# Altium integrated library TI Power Management Lighting and Display.IntLib: 745 symbols (part 21 of 48)
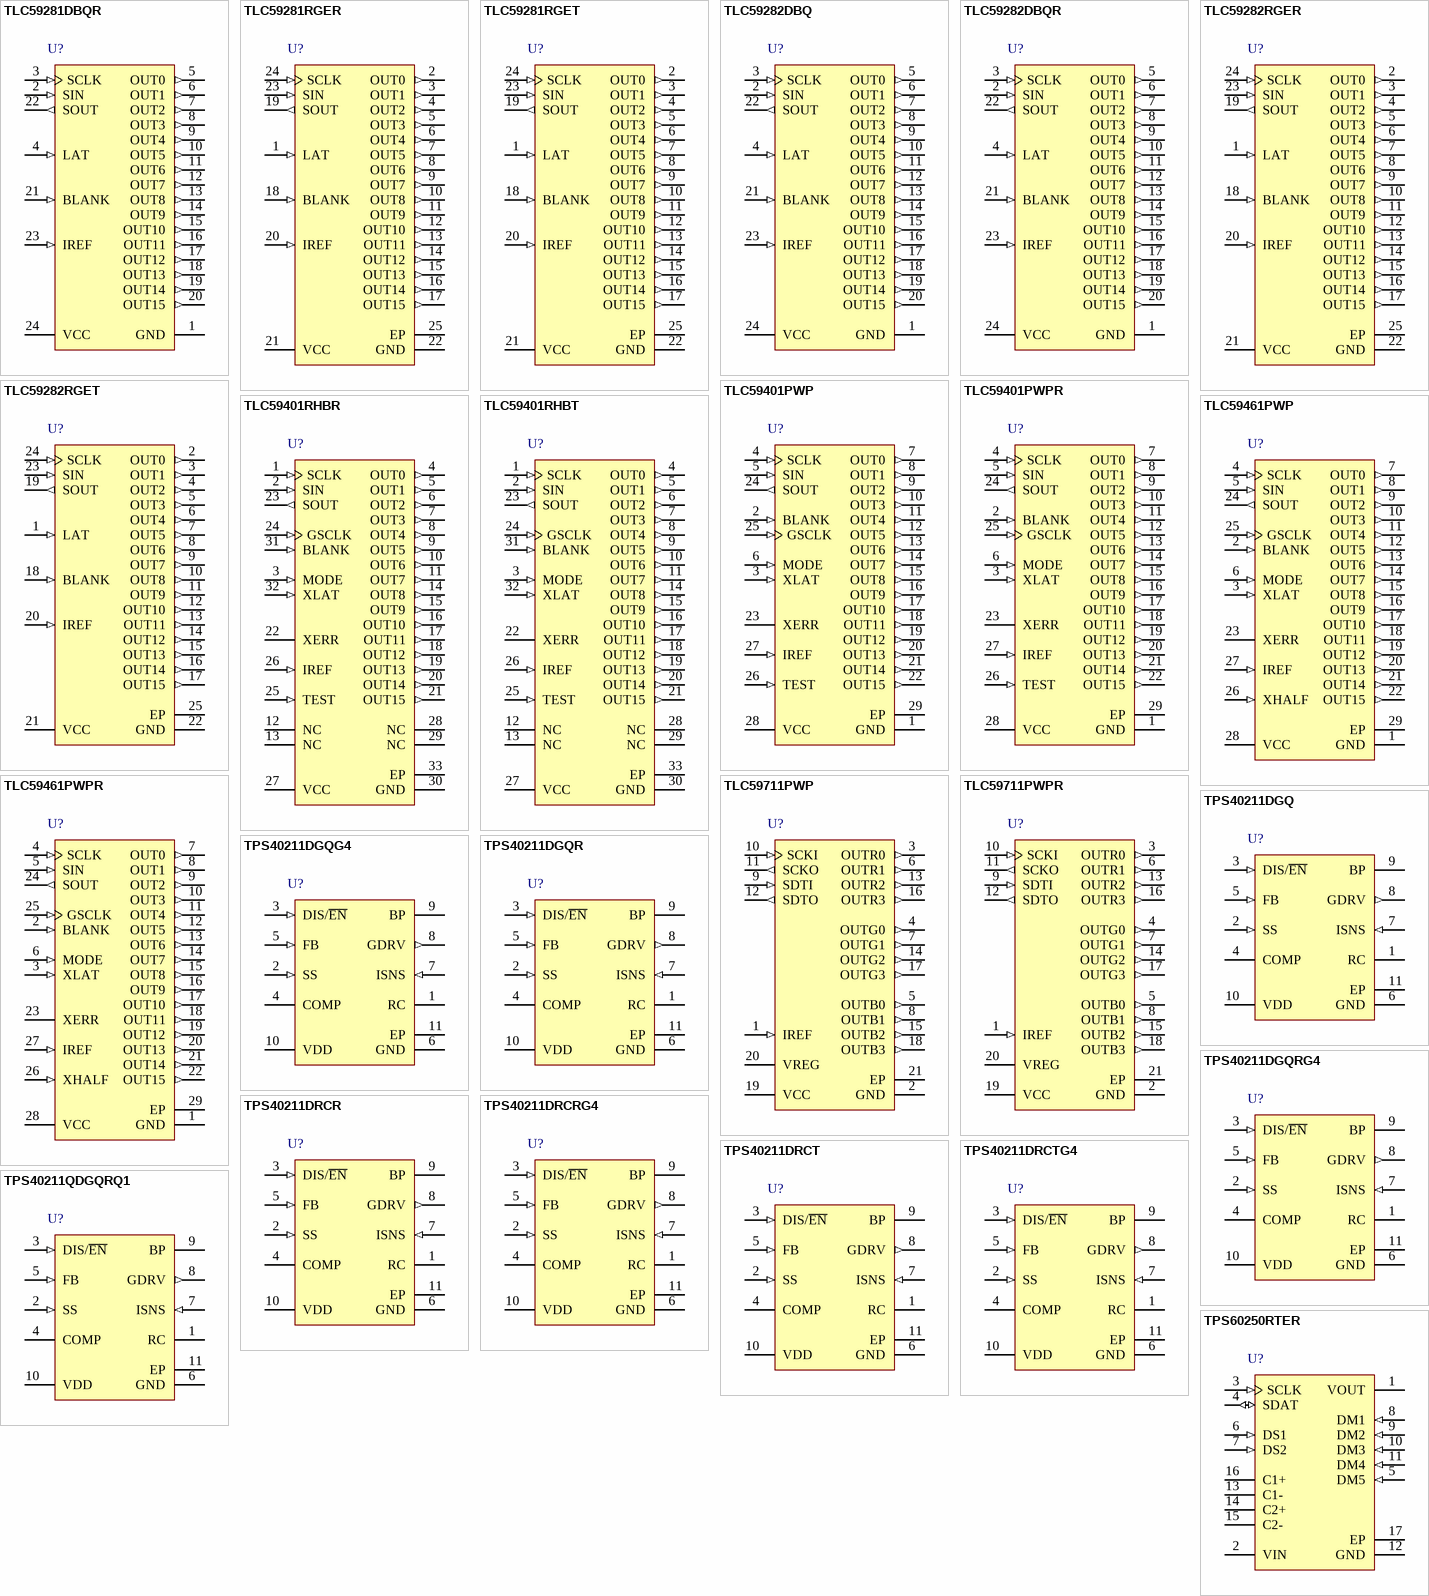
[diagram p51: symbols TLC59281DBQR to TPS60250RTER]

## TPS40211DGQ
designator U?
Wide Input Range Current Mode Boost Controller, 4.5 to 52 V, -40 to 125 degC, 10-pin SOP (DGQ10), Green (RoHS & no Sb/Br); Manufacturer: Texas Instruments; PartNumber: TPS40211DGQ; Iout(Max)(A): 6; Rating: Catalog; SubFamily: LED Driver, Lighting and Display Solutions, White LED Driver; Switching Frequency(Max)(kHz): 1000; Vin(Max)(V): 52; Vin(Min)(V): 4.5; DatasheetVersion: SLUS772E; PackageVersion: 4073273/F; PackageReference: DGQ10-1675X1445TP; PackageDescription: 10-Pin Plastic Small Outline, Body 3 x 3 mm, Pitch 0.5 mm; Supplier 1: Digi-Key; Supplier Part Number 1: 296-23411-5-ND; Supplier 2: Digi-Key; Supplier Part Number 2: 296-23411-2-ND; Supplier 3: Farnell; Supplier Part Number 3: 1755636; Supplier 4: Newark; Supplier Part Number 4: 95M0048; Supplier 5: Mouser; Supplier Part Number 5: 595-TPS40211DGQ; Eco-Plan: Green (RoHS & no Sb/Br); Topology: Boost; Mounting Technology: Surface Mount; Code_JEDEC: MO-187; ComponentLink1Description: Manufacturer URL; ComponentLink1URL: http://www.ti.com/; ComponentLink2Description: Datasheet; ComponentLink2URL: http://www.ti.com/general/docs/lit/getliterature.tsp?genericPartNumber=TPS40211&fileType=pdf; ComponentLink3Description: Package Specification; ComponentLink3URL: http://www.ti.com/litv/pdf/mpds043e
footprint TI-DGQ10-1675X1445TP_N (SOP, 10-Leads, Body 3.0x3.0mm, Pitch 0.5mm, Thermal Pad 1.675X1.445mm, IPC Medium Density)
footprint TI-DGQ10-1675X1445TP_L (SOP, 10-Leads, Body 3.0x3.0mm, Pitch 0.5mm, Thermal Pad 1.675X1.445mm, IPC High Density)
footprint TI-DGQ10-1675X1445TP_M (SOP, 10-Leads, Body 3.0x3.0mm, Pitch 0.5mm, Thermal Pad 1.675X1.445mm, IPC Low Density)
pins: 1 RC "Swiching frequency setting pin . Connect a resistor from RC pin to VDD of the IC power supply and a capacitor from RC to GND.", 2 SS (in) "Soft-start time programming pin . Connect capacitor from SS pin to GND to program converter soft-start time This pin also functions as time out timer when the power supply is in an overcurrent condition.", 3 DIS/~{EN} (in) "Disable pin. Pulling this pin high, places the part into a shutdown mode. Shutdown mode is characterized by a very low quiescent current. While in shut down mode , the functionality of all blocks is disabled and thr BP (See Datasheet)", 4 COMP "Error amplifier output. Connect control loop compensation network between COMP pin and FB pin.", 5 FB (in) "Error amplifier inverting input . Connect 3 voltage divider from the output to this pin to set voltage . Compensation network is connect between this pin and COMP .", 6 GND (power) "Device ground.", 7 ISNS (in) "Current sense pin. Connect an external current sensing resistor between this pin and GND. The voltage on this pin is used to provide current feedback in the control loop and overcurrent condition . An overcurrent condition (See Datasheet)", 8 GDRV (out) "Connect the gate of the power N channel MOSFET to this pin.", 9 BP (power) "Regulator output pin. Connect a 1.0-uF bypass capacitor from this pin to GND.", 10 VDD (power) "System input voltage. Connect a local bypass capacitor from this pin to GND. Depending on the amount of VDD 10 I required slope compensation, this pin can be connected to the converter output.", 11 EP "Exposed thermal pad"

## TPS40211DGQG4
designator U?
Wide Input Range Current Mode Boost Controller, 4.5 to 52 V, -40 to 125 degC, 10-pin SOP (DGQ10), Green (RoHS & no Sb/Br); Manufacturer: Texas Instruments; PartNumber: TPS40211DGQG4; Iout(Max)(A): 6; Rating: Catalog; SubFamily: LED Driver, Lighting and Display Solutions, White LED Driver; Switching Frequency(Max)(kHz): 1000; Vin(Max)(V): 52; Vin(Min)(V): 4.5; DatasheetVersion: SLUS772E; PackageVersion: 4073273/F; PackageReference: DGQ10-1675X1445TP; PackageDescription: 10-Pin Plastic Small Outline, Body 3 x 3 mm, Pitch 0.5 mm; Supplier 1: Digi-Key; Supplier Part Number 1: TPS40211DGQG4-ND; Supplier 2: Mouser; Supplier Part Number 2: 595-TPS40211DGQG4; Eco-Plan: Green (RoHS & no Sb/Br); Topology: Boost; Mounting Technology: Surface Mount; Code_JEDEC: MO-187; ComponentLink1Description: Manufacturer URL; ComponentLink1URL: http://www.ti.com/; ComponentLink2Description: Datasheet; ComponentLink2URL: http://www.ti.com/general/docs/lit/getliterature.tsp?genericPartNumber=TPS40211&fileType=pdf; ComponentLink3Description: Package Specification; ComponentLink3URL: http://www.ti.com/litv/pdf/mpds043e
footprint TI-DGQ10-1675X1445TP_N (SOP, 10-Leads, Body 3.0x3.0mm, Pitch 0.5mm, Thermal Pad 1.675X1.445mm, IPC Medium Density)
footprint TI-DGQ10-1675X1445TP_L (SOP, 10-Leads, Body 3.0x3.0mm, Pitch 0.5mm, Thermal Pad 1.675X1.445mm, IPC High Density)
footprint TI-DGQ10-1675X1445TP_M (SOP, 10-Leads, Body 3.0x3.0mm, Pitch 0.5mm, Thermal Pad 1.675X1.445mm, IPC Low Density)
pins: 1 RC "Swiching frequency setting pin . Connect a resistor from RC pin to VDD of the IC power supply and a capacitor from RC to GND.", 2 SS (in) "Soft-start time programming pin . Connect capacitor from SS pin to GND to program converter soft-start time This pin also functions as time out timer when the power supply is in an overcurrent condition.", 3 DIS/~{EN} (in) "Disable pin. Pulling this pin high, places the part into a shutdown mode. Shutdown mode is characterized by a very low quiescent current. While in shut down mode , the functionality of all blocks is disabled and thr BP (See Datasheet)", 4 COMP "Error amplifier output. Connect control loop compensation network between COMP pin and FB pin.", 5 FB (in) "Error amplifier inverting input . Connect 3 voltage divider from the output to this pin to set voltage . Compensation network is connect between this pin and COMP .", 6 GND (power) "Device ground.", 7 ISNS (in) "Current sense pin. Connect an external current sensing resistor between this pin and GND. The voltage on this pin is used to provide current feedback in the control loop and overcurrent condition . An overcurrent condition (See Datasheet)", 8 GDRV (out) "Connect the gate of the power N channel MOSFET to this pin.", 9 BP (power) "Regulator output pin. Connect a 1.0-uF bypass capacitor from this pin to GND.", 10 VDD (power) "System input voltage. Connect a local bypass capacitor from this pin to GND. Depending on the amount of VDD 10 I required slope compensation, this pin can be connected to the converter output.", 11 EP "Exposed thermal pad"

## TPS40211DGQR
designator U?
Wide Input Range Current Mode Boost Controller, 4.5 to 52 V, -40 to 125 degC, 10-pin SOP (DGQ10), Green (RoHS & no Sb/Br); Manufacturer: Texas Instruments; PartNumber: TPS40211DGQR; Iout(Max)(A): 6; Rating: Catalog; SubFamily: LED Driver, Lighting and Display Solutions, White LED Driver; Switching Frequency(Max)(kHz): 1000; Vin(Max)(V): 52; Vin(Min)(V): 4.5; DatasheetVersion: SLUS772E; PackageVersion: 4073273/F; PackageReference: DGQ10-1675X1445TP; PackageDescription: 10-Pin Plastic Small Outline, Body 3 x 3 mm, Pitch 0.5 mm; Supplier 1: Digi-Key; Supplier Part Number 1: TPS40211DGQR-ND; Supplier 2: Mouser; Supplier Part Number 2: 595-TPS40211DGQR; Eco-Plan: Green (RoHS & no Sb/Br); Topology: Boost; Mounting Technology: Surface Mount; Code_JEDEC: MO-187; ComponentLink1Description: Manufacturer URL; ComponentLink1URL: http://www.ti.com/; ComponentLink2Description: Datasheet; ComponentLink2URL: http://www.ti.com/general/docs/lit/getliterature.tsp?genericPartNumber=TPS40211&fileType=pdf; ComponentLink3Description: Package Specification; ComponentLink3URL: http://www.ti.com/litv/pdf/mpds043e
footprint TI-DGQ10-1675X1445TP_N (SOP, 10-Leads, Body 3.0x3.0mm, Pitch 0.5mm, Thermal Pad 1.675X1.445mm, IPC Medium Density)
footprint TI-DGQ10-1675X1445TP_L (SOP, 10-Leads, Body 3.0x3.0mm, Pitch 0.5mm, Thermal Pad 1.675X1.445mm, IPC High Density)
footprint TI-DGQ10-1675X1445TP_M (SOP, 10-Leads, Body 3.0x3.0mm, Pitch 0.5mm, Thermal Pad 1.675X1.445mm, IPC Low Density)
pins: 1 RC "Swiching frequency setting pin . Connect a resistor from RC pin to VDD of the IC power supply and a capacitor from RC to GND.", 2 SS (in) "Soft-start time programming pin . Connect capacitor from SS pin to GND to program converter soft-start time This pin also functions as time out timer when the power supply is in an overcurrent condition.", 3 DIS/~{EN} (in) "Disable pin. Pulling this pin high, places the part into a shutdown mode. Shutdown mode is characterized by a very low quiescent current. While in shut down mode , the functionality of all blocks is disabled and thr BP (See Datasheet)", 4 COMP "Error amplifier output. Connect control loop compensation network between COMP pin and FB pin.", 5 FB (in) "Error amplifier inverting input . Connect 3 voltage divider from the output to this pin to set voltage . Compensation network is connect between this pin and COMP .", 6 GND (power) "Device ground.", 7 ISNS (in) "Current sense pin. Connect an external current sensing resistor between this pin and GND. The voltage on this pin is used to provide current feedback in the control loop and overcurrent condition . An overcurrent condition (See Datasheet)", 8 GDRV (out) "Connect the gate of the power N channel MOSFET to this pin.", 9 BP (power) "Regulator output pin. Connect a 1.0-uF bypass capacitor from this pin to GND.", 10 VDD (power) "System input voltage. Connect a local bypass capacitor from this pin to GND. Depending on the amount of VDD 10 I required slope compensation, this pin can be connected to the converter output.", 11 EP "Exposed thermal pad"

## TPS40211DGQRG4
designator U?
Wide Input Range Current Mode Boost Controller, 4.5 to 52 V, -40 to 125 degC, 10-pin SOP (DGQ10), Green (RoHS & no Sb/Br); Manufacturer: Texas Instruments; PartNumber: TPS40211DGQRG4; Iout(Max)(A): 6; Rating: Catalog; SubFamily: LED Driver, Lighting and Display Solutions, White LED Driver; Switching Frequency(Max)(kHz): 1000; Vin(Max)(V): 52; Vin(Min)(V): 4.5; DatasheetVersion: SLUS772E; PackageVersion: 4073273/F; PackageReference: DGQ10-1675X1445TP; PackageDescription: 10-Pin Plastic Small Outline, Body 3 x 3 mm, Pitch 0.5 mm; Supplier 1: Digi-Key; Supplier Part Number 1: TPS40211DGQRG4-ND; Supplier 2: Mouser; Supplier Part Number 2: 595-TPS40211DGQRG4; Eco-Plan: Green (RoHS & no Sb/Br); Topology: Boost; Mounting Technology: Surface Mount; Code_JEDEC: MO-187; ComponentLink1Description: Manufacturer URL; ComponentLink1URL: http://www.ti.com/; ComponentLink2Description: Datasheet; ComponentLink2URL: http://www.ti.com/general/docs/lit/getliterature.tsp?genericPartNumber=TPS40211&fileType=pdf; ComponentLink3Description: Package Specification; ComponentLink3URL: http://www.ti.com/litv/pdf/mpds043e
footprint TI-DGQ10-1675X1445TP_N (SOP, 10-Leads, Body 3.0x3.0mm, Pitch 0.5mm, Thermal Pad 1.675X1.445mm, IPC Medium Density)
footprint TI-DGQ10-1675X1445TP_L (SOP, 10-Leads, Body 3.0x3.0mm, Pitch 0.5mm, Thermal Pad 1.675X1.445mm, IPC High Density)
footprint TI-DGQ10-1675X1445TP_M (SOP, 10-Leads, Body 3.0x3.0mm, Pitch 0.5mm, Thermal Pad 1.675X1.445mm, IPC Low Density)
pins: 1 RC "Swiching frequency setting pin . Connect a resistor from RC pin to VDD of the IC power supply and a capacitor from RC to GND.", 2 SS (in) "Soft-start time programming pin . Connect capacitor from SS pin to GND to program converter soft-start time This pin also functions as time out timer when the power supply is in an overcurrent condition.", 3 DIS/~{EN} (in) "Disable pin. Pulling this pin high, places the part into a shutdown mode. Shutdown mode is characterized by a very low quiescent current. While in shut down mode , the functionality of all blocks is disabled and thr BP (See Datasheet)", 4 COMP "Error amplifier output. Connect control loop compensation network between COMP pin and FB pin.", 5 FB (in) "Error amplifier inverting input . Connect 3 voltage divider from the output to this pin to set voltage . Compensation network is connect between this pin and COMP .", 6 GND (power) "Device ground.", 7 ISNS (in) "Current sense pin. Connect an external current sensing resistor between this pin and GND. The voltage on this pin is used to provide current feedback in the control loop and overcurrent condition . An overcurrent condition (See Datasheet)", 8 GDRV (out) "Connect the gate of the power N channel MOSFET to this pin.", 9 BP (power) "Regulator output pin. Connect a 1.0-uF bypass capacitor from this pin to GND.", 10 VDD (power) "System input voltage. Connect a local bypass capacitor from this pin to GND. Depending on the amount of VDD 10 I required slope compensation, this pin can be connected to the converter output.", 11 EP "Exposed thermal pad"

## TPS40211DRCR
designator U?
Wide Input Range Current Mode Boost Controller, 4.5 to 52 V, -40 to 125 degC, 10-pin SON (DRC10), Green (RoHS & no Sb/Br); Manufacturer: Texas Instruments; PartNumber: TPS40211DRCR; Iout(Max)(A): 6; Rating: Catalog; SubFamily: LED Driver, Lighting and Display Solutions, White LED Driver; Switching Frequency(Max)(kHz): 1000; Vin(Max)(V): 52; Vin(Min)(V): 4.5; DatasheetVersion: SLUS772E; PackageVersion: 4204102-3/L; PackageReference: DRC10-2400X1650TP; PackageDescription: 10-Pin Plastic Small Outline, Body 3 x 3 mm, Pitch 0.5 mm; Supplier 1: Digi-Key; Supplier Part Number 1: TPS40211DRCR-ND; Supplier 2: Mouser; Supplier Part Number 2: 595-TPS40211DRCR; Eco-Plan: Green (RoHS & no Sb/Br); Topology: Boost; Mounting Technology: Surface Mount; ComponentLink1Description: Manufacturer URL; ComponentLink1URL: http://www.ti.com/; ComponentLink2Description: Datasheet; ComponentLink2URL: http://www.ti.com/general/docs/lit/getliterature.tsp?genericPartNumber=TPS40211&fileType=pdf; ComponentLink3Description: Package Specification; ComponentLink3URL: http://www.ti.com/litv/pdf/mpds117k
footprint TI-DRC10-2400X1650TP_V (SON, 10-Leads, Body 3x3mm, Pitch 0.5mm, Thermal Pad 3x1.65mm)
pins: 1 RC "Switching frequency setting pin. Connect a resistor from RC pin to VDD of the IC power supply and a capacitor from RC to GND.", 2 SS (in) "Soft-start time programming pin. Connect capacitor from SS pin to GND to program converter soft-start time. This pin also functions as a timeout timer when the power supply is in an overcurrent condition.", 3 DIS/~{EN} (in) "Disable pin. Pulling this pin high, places the part into a shutdown mode. Shutdown mode is characterized by a very low quiescent current. While in shutdown mode, the functionality of all blocks is disabled and the BP (See Datasheet)", 4 COMP "Error amplifier output. Connect control loop compensation network between COMP pin and FB pin.", 5 FB (in) "Error amplifier inverting input. Connect a voltage divider from the output to this pin to set output voltage. Compensation network is connected between this pin and COMP.", 6 GND (power) "Device ground.", 7 ISNS (in) "Current sense pin. Connect an external current sensing resistor between this pin and GND. The voltage on this pin is used to provide current feedback in the control loop and detect an overcurrent condition. An overcurrent (See Datasheet)", 8 GDRV (out) "Connect the gate of the power N channel MOSFET to this pin.", 9 BP (power) "Regulator output pin. Connect a 1.0-uF bypass capacitor from this pin to GND.", 10 VDD (power) "System input voltage. Connect a local bypass capacitor from this pin to GND. Depending on the amount of required slope compensation, this pin can be connected to the converter output. See Application Information section for (See Datasheet)", 11 EP "Exposed thermal pad"

## TPS40211DRCRG4
designator U?
Wide Input Range Current Mode Boost Controller, 4.5 to 52 V, -40 to 125 degC, 10-pin SON (DRC10), Green (RoHS & no Sb/Br); Manufacturer: Texas Instruments; PartNumber: TPS40211DRCRG4; Iout(Max)(A): 6; Rating: Catalog; SubFamily: LED Driver, Lighting and Display Solutions, White LED Driver; Switching Frequency(Max)(kHz): 1000; Vin(Max)(V): 52; Vin(Min)(V): 4.5; DatasheetVersion: SLUS772E; PackageVersion: 4204102-3/L; PackageReference: DRC10-2400X1650TP; PackageDescription: 10-Pin Plastic Small Outline, Body 3 x 3 mm, Pitch 0.5 mm; Supplier 1: Digi-Key; Supplier Part Number 1: TPS40211DRCRG4-ND; Supplier 2: Mouser; Supplier Part Number 2: 595-TPS40211DRCRG4; Eco-Plan: Green (RoHS & no Sb/Br); Topology: Boost; Mounting Technology: Surface Mount; ComponentLink1Description: Manufacturer URL; ComponentLink1URL: http://www.ti.com/; ComponentLink2Description: Datasheet; ComponentLink2URL: http://www.ti.com/general/docs/lit/getliterature.tsp?genericPartNumber=TPS40211&fileType=pdf; ComponentLink3Description: Package Specification; ComponentLink3URL: http://www.ti.com/litv/pdf/mpds117k
footprint TI-DRC10-2400X1650TP_V (SON, 10-Leads, Body 3x3mm, Pitch 0.5mm, Thermal Pad 3x1.65mm)
pins: 1 RC "Switching frequency setting pin. Connect a resistor from RC pin to VDD of the IC power supply and a capacitor from RC to GND.", 2 SS (in) "Soft-start time programming pin. Connect capacitor from SS pin to GND to program converter soft-start time. This pin also functions as a timeout timer when the power supply is in an overcurrent condition.", 3 DIS/~{EN} (in) "Disable pin. Pulling this pin high, places the part into a shutdown mode. Shutdown mode is characterized by a very low quiescent current. While in shutdown mode, the functionality of all blocks is disabled and the BP (See Datasheet)", 4 COMP "Error amplifier output. Connect control loop compensation network between COMP pin and FB pin.", 5 FB (in) "Error amplifier inverting input. Connect a voltage divider from the output to this pin to set output voltage. Compensation network is connected between this pin and COMP.", 6 GND (power) "Device ground.", 7 ISNS (in) "Current sense pin. Connect an external current sensing resistor between this pin and GND. The voltage on this pin is used to provide current feedback in the control loop and detect an overcurrent condition. An overcurrent (See Datasheet)", 8 GDRV (out) "Connect the gate of the power N channel MOSFET to this pin.", 9 BP (power) "Regulator output pin. Connect a 1.0-uF bypass capacitor from this pin to GND.", 10 VDD (power) "System input voltage. Connect a local bypass capacitor from this pin to GND. Depending on the amount of required slope compensation, this pin can be connected to the converter output. See Application Information section for (See Datasheet)", 11 EP "Exposed thermal pad"

## TPS40211DRCT
designator U?
Wide Input Range Current Mode Boost Controller, 4.5 to 52 V, -40 to 125 degC, 10-pin SON (DRC10), Green (RoHS & no Sb/Br); Manufacturer: Texas Instruments; PartNumber: TPS40211DRCT; Iout(Max)(A): 6; Rating: Catalog; SubFamily: LED Driver, Lighting and Display Solutions, White LED Driver; Switching Frequency(Max)(kHz): 1000; Vin(Max)(V): 52; Vin(Min)(V): 4.5; DatasheetVersion: SLUS772E; PackageVersion: 4204102-3/L; PackageReference: DRC10-2400X1650TP; PackageDescription: 10-Pin Plastic Small Outline, Body 3 x 3 mm, Pitch 0.5 mm; Supplier 1: Digi-Key; Supplier Part Number 1: 296-23414-2-ND; Supplier 2: Digi-Key; Supplier Part Number 2: 296-23414-1-ND; Supplier 3: Digi-Key; Supplier Part Number 3: 296-23414-6-ND; Supplier 4: Mouser; Supplier Part Number 4: 595-TPS40211DRCT; Eco-Plan: Green (RoHS & no Sb/Br); Topology: Boost; Mounting Technology: Surface Mount; ComponentLink1Description: Manufacturer URL; ComponentLink1URL: http://www.ti.com/; ComponentLink2Description: Datasheet; ComponentLink2URL: http://www.ti.com/general/docs/lit/getliterature.tsp?genericPartNumber=TPS40211&fileType=pdf; ComponentLink3Description: Package Specification; ComponentLink3URL: http://www.ti.com/litv/pdf/mpds117k
footprint TI-DRC10-2400X1650TP_V (SON, 10-Leads, Body 3x3mm, Pitch 0.5mm, Thermal Pad 3x1.65mm)
pins: 1 RC "Switching frequency setting pin. Connect a resistor from RC pin to VDD of the IC power supply and a capacitor from RC to GND.", 2 SS (in) "Soft-start time programming pin. Connect capacitor from SS pin to GND to program converter soft-start time. This pin also functions as a timeout timer when the power supply is in an overcurrent condition.", 3 DIS/~{EN} (in) "Disable pin. Pulling this pin high, places the part into a shutdown mode. Shutdown mode is characterized by a very low quiescent current. While in shutdown mode, the functionality of all blocks is disabled and the BP (See Datasheet)", 4 COMP "Error amplifier output. Connect control loop compensation network between COMP pin and FB pin.", 5 FB (in) "Error amplifier inverting input. Connect a voltage divider from the output to this pin to set output voltage. Compensation network is connected between this pin and COMP.", 6 GND (power) "Device ground.", 7 ISNS (in) "Current sense pin. Connect an external current sensing resistor between this pin and GND. The voltage on this pin is used to provide current feedback in the control loop and detect an overcurrent condition. An overcurrent (See Datasheet)", 8 GDRV (out) "Connect the gate of the power N channel MOSFET to this pin.", 9 BP (power) "Regulator output pin. Connect a 1.0-uF bypass capacitor from this pin to GND.", 10 VDD (power) "System input voltage. Connect a local bypass capacitor from this pin to GND. Depending on the amount of required slope compensation, this pin can be connected to the converter output. See Application Information section for (See Datasheet)", 11 EP "Exposed thermal pad"

## TPS40211DRCTG4
designator U?
Wide Input Range Current Mode Boost Controller, 4.5 to 52 V, -40 to 125 degC, 10-pin SON (DRC10), Green (RoHS & no Sb/Br); Manufacturer: Texas Instruments; PartNumber: TPS40211DRCTG4; Iout(Max)(A): 6; Rating: Catalog; SubFamily: LED Driver, Lighting and Display Solutions, White LED Driver; Switching Frequency(Max)(kHz): 1000; Vin(Max)(V): 52; Vin(Min)(V): 4.5; DatasheetVersion: SLUS772E; PackageVersion: 4204102-3/L; PackageReference: DRC10-2400X1650TP; PackageDescription: 10-Pin Plastic Small Outline, Body 3 x 3 mm, Pitch 0.5 mm; Supplier 1: Digi-Key; Supplier Part Number 1: TPS40211DRCTG4-ND; Supplier 2: Mouser; Supplier Part Number 2: 595-TPS40211DRCTG4; Eco-Plan: Green (RoHS & no Sb/Br); Topology: Boost; Mounting Technology: Surface Mount; ComponentLink1Description: Manufacturer URL; ComponentLink1URL: http://www.ti.com/; ComponentLink2Description: Datasheet; ComponentLink2URL: http://www.ti.com/general/docs/lit/getliterature.tsp?genericPartNumber=TPS40211&fileType=pdf; ComponentLink3Description: Package Specification; ComponentLink3URL: http://www.ti.com/litv/pdf/mpds117k
footprint TI-DRC10-2400X1650TP_V (SON, 10-Leads, Body 3x3mm, Pitch 0.5mm, Thermal Pad 3x1.65mm)
pins: 1 RC "Switching frequency setting pin. Connect a resistor from RC pin to VDD of the IC power supply and a capacitor from RC to GND.", 2 SS (in) "Soft-start time programming pin. Connect capacitor from SS pin to GND to program converter soft-start time. This pin also functions as a timeout timer when the power supply is in an overcurrent condition.", 3 DIS/~{EN} (in) "Disable pin. Pulling this pin high, places the part into a shutdown mode. Shutdown mode is characterized by a very low quiescent current. While in shutdown mode, the functionality of all blocks is disabled and the BP (See Datasheet)", 4 COMP "Error amplifier output. Connect control loop compensation network between COMP pin and FB pin.", 5 FB (in) "Error amplifier inverting input. Connect a voltage divider from the output to this pin to set output voltage. Compensation network is connected between this pin and COMP.", 6 GND (power) "Device ground.", 7 ISNS (in) "Current sense pin. Connect an external current sensing resistor between this pin and GND. The voltage on this pin is used to provide current feedback in the control loop and detect an overcurrent condition. An overcurrent (See Datasheet)", 8 GDRV (out) "Connect the gate of the power N channel MOSFET to this pin.", 9 BP (power) "Regulator output pin. Connect a 1.0-uF bypass capacitor from this pin to GND.", 10 VDD (power) "System input voltage. Connect a local bypass capacitor from this pin to GND. Depending on the amount of required slope compensation, this pin can be connected to the converter output. See Application Information section for (See Datasheet)", 11 EP "Exposed thermal pad"

## TPS40211QDGQRQ1
designator U?
Automotive Catalog Wide Input Range Current Mode Boost Controller, 4.5 to 52 V, -40 to 125 degC, 10-pin SOP (DGQ10), Green (RoHS & no Sb/Br); Manufacturer: Texas Instruments; PartNumber: TPS40211QDGQRQ1; Iout(Max)(A): 6; SubFamily: White LED Driver; Switching Frequency(Max)(kHz): 1000; Vin(Max)(V): 52; Vin(Min)(V): 4.5; DatasheetVersion: SLVS861D; PackageVersion: 4073273/F; PackageReference: DGQ10-1675X1445TP; PackageDescription: 10-Pin Plastic Small Outline, Body 3 x 3 mm, Pitch 0.5 mm; Supplier 1: Digi-Key; Supplier Part Number 1: 296-23879-2-ND; Supplier 2: Digi-Key; Supplier Part Number 2: 296-23879-1-ND; Supplier 3: Digi-Key; Supplier Part Number 3: 296-23879-6-ND; Supplier 4: Mouser; Supplier Part Number 4: 595-TPS40211QDGQRQ1; Eco-Plan: Green (RoHS & no Sb/Br); Rating: Automotive; Topology: Boost; Mounting Technology: Surface Mount; Code_JEDEC: MO-187; ComponentLink1Description: Manufacturer URL; ComponentLink1URL: http://www.ti.com/; ComponentLink2Description: Datasheet; ComponentLink2URL: http://www.ti.com/general/docs/lit/getliterature.tsp?genericPartNumber=TPS40211-Q1&fileType=pdf; ComponentLink3Description: Package Specification; ComponentLink3URL: http://www.ti.com/litv/pdf/mpds043e
footprint TI-DGQ10-1675X1445TP_N (SOP, 10-Leads, Body 3.0x3.0mm, Pitch 0.5mm, Thermal Pad 1.675X1.445mm, IPC Medium Density)
footprint TI-DGQ10-1675X1445TP_L (SOP, 10-Leads, Body 3.0x3.0mm, Pitch 0.5mm, Thermal Pad 1.675X1.445mm, IPC High Density)
footprint TI-DGQ10-1675X1445TP_M (SOP, 10-Leads, Body 3.0x3.0mm, Pitch 0.5mm, Thermal Pad 1.675X1.445mm, IPC Low Density)
pins: 1 RC "Switching frequency setting. Connect capacitor from RC pin to GND. Connect a resistor from RC pin to VDD of the IC power supply and a capacitor from RC to GND.", 2 SS (in) "Soft-start time programming. Connect capacitor from SS pin to GND to program converter soft-start time. This pin also functions as a timeout timer when the power supply is in an overcurrent condition", 3 DIS/~{EN} (in) "Disable/enable. Pulling this pin high places the part into a shutdown mode. Shutdown mode is characterized by a very low quiescent current. While in shutdown mode, the functionality of all blocks is disabled, and the BP (See Datasheet)", 4 COMP "Error amplifier output. Connect control loop compensation network between COMP pin and FB pin", 5 FB (in) "Error amplifier inverting input. Connect a voltage divider from the output to this pin to set the output voltage.Compensation network is connected between this pin and COMP.", 6 GND (power) "Device ground", 7 ISNS (in) "Current sense. Connect an external current sensing resistor between this pin and GND. The voltage on this pin is used to provide current feedback in the control loop and detect an overcurrent condition. An overcurrent (See Datasheet)", 8 GDRV (out) "Connect the gate of the power N-channel MOSFET to this pin.", 9 BP (power) "Regulator output. Connect a 1.0-uF bypass capacitor from this pin to GND.", 10 VDD (power) "System input voltage. Connect a local bypass capacitor from this pin to GND. Depending on the amount of required slope compensation, this pin can be connected to the converter output. See Application Information section for (See Datasheet)", 11 EP "Exposed thermal pad"

## TPS60250RTER
designator U?
High Efficiency Charge Pump for 7 WLEDs with I2C Interface, 3 to 6 V, -40 to 85 degC, 16-pin QFN (RTE16), Green (RoHS & no Sb/Br); Manufacturer: Texas Instruments; PartNumber: TPS60250RTER; Dimming: TRUE; Iout(Max)(A): 0.23; Iq(Typ)(mA): 0.068; Rating: Catalog; SubFamily: White LED Driver; Switching Frequency(Max)(kHz): 750; Topology: Boost; Vin(Max)(V): 6; Vin(Min)(V): 3; DatasheetVersion: SLVS769C; PackageVersion: 4205254/D; PackageReference: RTE16-1700X1700TP; PackageDescription: 16-Pin Plastic Flat Pack, Body 3 x 3 mm, Pitch 0.5 mm; Supplier 1: Digi-Key; Supplier Part Number 1: 296-21893-2-ND; Supplier 2: Digi-Key; Supplier Part Number 2: 296-21893-1-ND; Supplier 3: Digi-Key; Supplier Part Number 3: 296-21893-6-ND; Supplier 4: Mouser; Supplier Part Number 4: 595-TPS60250RTER; Eco-Plan: Green (RoHS & no Sb/Br); Mounting Technology: Surface Mount; Code_JEDEC: MO-220; ComponentLink1Description: Manufacturer URL; ComponentLink1URL: http://www.ti.com/; ComponentLink2Description: Datasheet; ComponentLink2URL: http://www.ti.com/general/docs/lit/getliterature.tsp?genericPartNumber=TPS60250&fileType=pdf; ComponentLink3Description: Package Specification; ComponentLink3URL: http://www.ti.com/litv/pdf/mpqf149c
footprint TI-RTE16-1700X1700TP_V (QFN, 16-Leads, Body 3x3mm, Pitch 0.5mm, Thermal Pad 1.7x1.7mm)
pins: 1 VOUT (power) "Connect the anodes of the sub, main, and aux display white LEDs to this pin.", 2 VIN (power) "Supply voltage input. Connect to a 3 V to 6 V input supply source.", 3 SCLK (in) "I2C Interface", 4 SDAT (io) "I2C Interface", 5 DM5 (in) "Current sink inputs. Connect the cathode of the aux display or the 5th main display white LED to this pin.", 6 DS1 (in) "Current sink inputs. Connect the cathode of one of the sub display white LEDs to these pins.", 7 DS2 (in) "Current sink inputs. Connect the cathode of one of the sub display white LEDs to these pins.", 8 DM1 (in) "Current sink input. Connect the cathode of one of the main display white LEDs to these pins.", 9 DM2 (in) "Current sink input. Connect the cathode of one of the main display white LEDs to these pins.", 10 DM3 (in) "Current sink input. Connect the cathode of one of the main display white LEDs to these pins.", 11 DM4 (in) "Current sink input. Connect the cathode of one of the main display white LEDs to these pins.", 12 GND (power) "Ground.", 13 C1- "Connect to the flying capacitor C1.", 14 C2+ "Connect to the flying capacitor C2.", 15 C2- "Connect to the flying capacitor C2.", 16 C1+ "Connect to the flying capacitor C1.", 17 EP (power) "Exposed thermal pad."

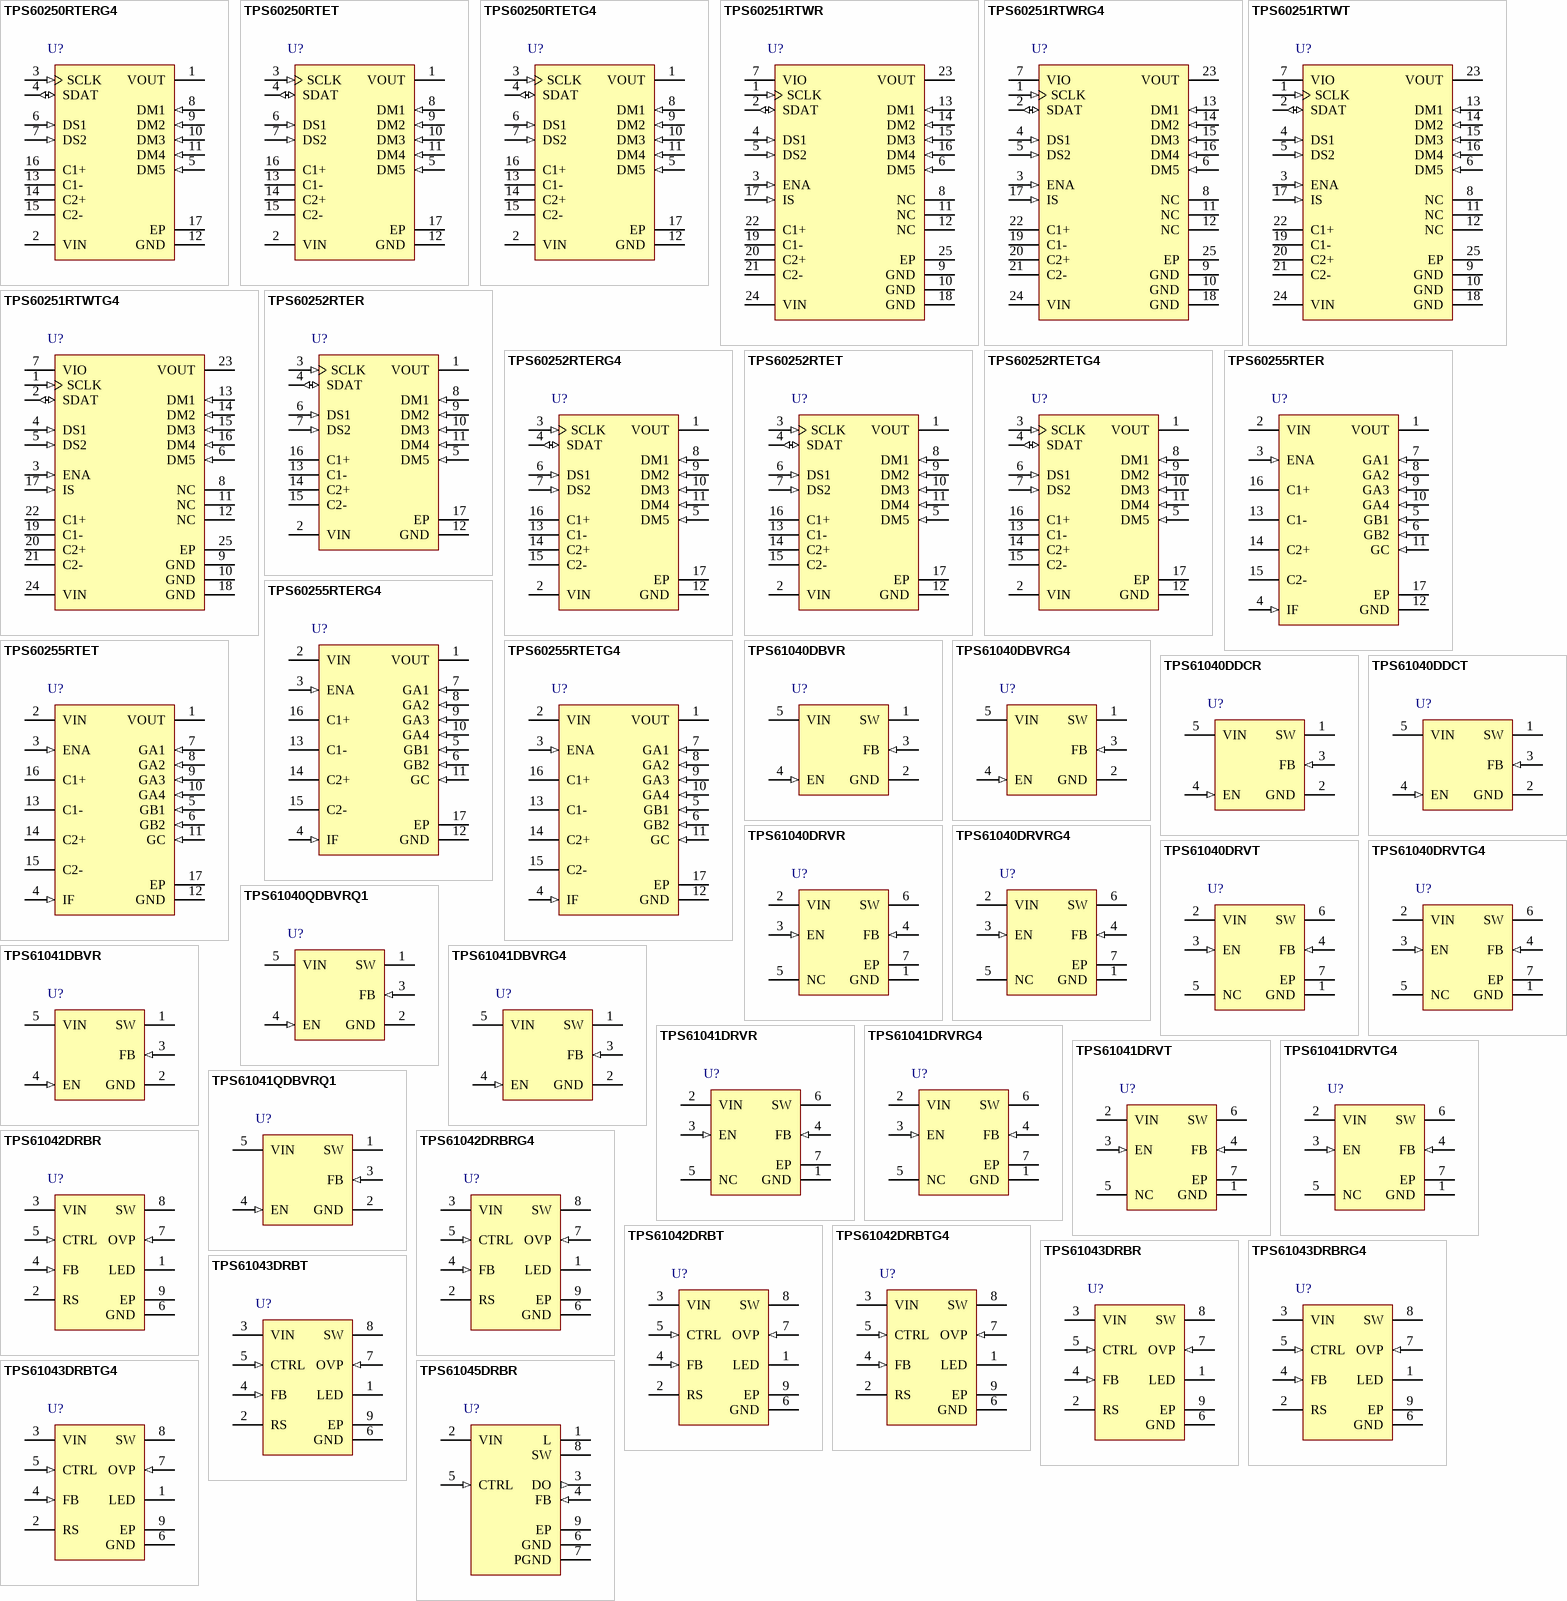
[diagram p15: symbols TPS60250RTERG4 to TPS61045DRBR]

## TPS60250RTERG4
designator U?
High Efficiency Charge Pump for 7 WLEDs with I2C Interface, 3 to 6 V, -40 to 85 degC, 16-pin QFN (RTE16), Green (RoHS & no Sb/Br); Manufacturer: Texas Instruments; PartNumber: TPS60250RTERG4; Dimming: TRUE; Iout(Max)(A): 0.23; Iq(Typ)(mA): 0.068; Rating: Catalog; SubFamily: White LED Driver; Switching Frequency(Max)(kHz): 750; Topology: Boost; Vin(Max)(V): 6; Vin(Min)(V): 3; DatasheetVersion: SLVS769C; PackageVersion: 4205254/D; PackageReference: RTE16-1700X1700TP; PackageDescription: 16-Pin Plastic Flat Pack, Body 3 x 3 mm, Pitch 0.5 mm; Supplier 1: Digi-Key; Supplier Part Number 1: TPS60250RTERG4-ND; Supplier 2: Newark; Supplier Part Number 2: 52M6116; Supplier 3: Mouser; Supplier Part Number 3: 595-TPS60250RTERG4; Eco-Plan: Green (RoHS & no Sb/Br); Mounting Technology: Surface Mount; Code_JEDEC: MO-220; ComponentLink1Description: Manufacturer URL; ComponentLink1URL: http://www.ti.com/; ComponentLink2Description: Datasheet; ComponentLink2URL: http://www.ti.com/general/docs/lit/getliterature.tsp?genericPartNumber=TPS60250&fileType=pdf; ComponentLink3Description: Package Specification; ComponentLink3URL: http://www.ti.com/litv/pdf/mpqf149c
footprint TI-RTE16-1700X1700TP_V (QFN, 16-Leads, Body 3x3mm, Pitch 0.5mm, Thermal Pad 1.7x1.7mm)
pins: 1 VOUT (power) "Connect the anodes of the sub, main, and aux display white LEDs to this pin.", 2 VIN (power) "Supply voltage input. Connect to a 3 V to 6 V input supply source.", 3 SCLK (in) "I2C Interface", 4 SDAT (io) "I2C Interface", 5 DM5 (in) "Current sink inputs. Connect the cathode of the aux display or the 5th main display white LED to this pin.", 6 DS1 (in) "Current sink inputs. Connect the cathode of one of the sub display white LEDs to these pins.", 7 DS2 (in) "Current sink inputs. Connect the cathode of one of the sub display white LEDs to these pins.", 8 DM1 (in) "Current sink input. Connect the cathode of one of the main display white LEDs to these pins.", 9 DM2 (in) "Current sink input. Connect the cathode of one of the main display white LEDs to these pins.", 10 DM3 (in) "Current sink input. Connect the cathode of one of the main display white LEDs to these pins.", 11 DM4 (in) "Current sink input. Connect the cathode of one of the main display white LEDs to these pins.", 12 GND (power) "Ground.", 13 C1- "Connect to the flying capacitor C1.", 14 C2+ "Connect to the flying capacitor C2.", 15 C2- "Connect to the flying capacitor C2.", 16 C1+ "Connect to the flying capacitor C1.", 17 EP (power) "Exposed thermal pad."

## TPS60250RTET
designator U?
High Efficiency Charge Pump for 7 WLEDs with I2C Interface, 3 to 6 V, -40 to 85 degC, 16-pin QFN (RTE16), Green (RoHS & no Sb/Br); Manufacturer: Texas Instruments; PartNumber: TPS60250RTET; Dimming: TRUE; Iout(Max)(A): 0.23; Iq(Typ)(mA): 0.068; Rating: Catalog; SubFamily: White LED Driver; Switching Frequency(Max)(kHz): 750; Topology: Boost; Vin(Max)(V): 6; Vin(Min)(V): 3; DatasheetVersion: SLVS769C; PackageVersion: 4205254/D; PackageReference: RTE16-1700X1700TP; PackageDescription: 16-Pin Plastic Flat Pack, Body 3 x 3 mm, Pitch 0.5 mm; Supplier 1: Digi-Key; Supplier Part Number 1: 296-32497-2-ND; Supplier 2: Digi-Key; Supplier Part Number 2: 296-32497-1-ND; Supplier 3: Digi-Key; Supplier Part Number 3: 296-32497-6-ND; Supplier 4: Farnell; Supplier Part Number 4: 1755583; Supplier 5: Farnell; Supplier Part Number 5: 1755583RL; Supplier 6: Newark; Supplier Part Number 6: 34R9204; Supplier 7: Newark; Supplier Part Number 7: 41M5879; Supplier 8: Mouser; Supplier Part Number 8: 595-TPS60250RTET; Eco-Plan: Green (RoHS & no Sb/Br); Mounting Technology: Surface Mount; Code_JEDEC: MO-220; ComponentLink1Description: Manufacturer URL; ComponentLink1URL: http://www.ti.com/; ComponentLink2Description: Datasheet; ComponentLink2URL: http://www.ti.com/general/docs/lit/getliterature.tsp?genericPartNumber=TPS60250&fileType=pdf; ComponentLink3Description: Package Specification; ComponentLink3URL: http://www.ti.com/litv/pdf/mpqf149c
footprint TI-RTE16-1700X1700TP_V (QFN, 16-Leads, Body 3x3mm, Pitch 0.5mm, Thermal Pad 1.7x1.7mm)
pins: 1 VOUT (power) "Connect the anodes of the sub, main, and aux display white LEDs to this pin.", 2 VIN (power) "Supply voltage input. Connect to a 3 V to 6 V input supply source.", 3 SCLK (in) "I2C Interface", 4 SDAT (io) "I2C Interface", 5 DM5 (in) "Current sink inputs. Connect the cathode of the aux display or the 5th main display white LED to this pin.", 6 DS1 (in) "Current sink inputs. Connect the cathode of one of the sub display white LEDs to these pins.", 7 DS2 (in) "Current sink inputs. Connect the cathode of one of the sub display white LEDs to these pins.", 8 DM1 (in) "Current sink input. Connect the cathode of one of the main display white LEDs to these pins.", 9 DM2 (in) "Current sink input. Connect the cathode of one of the main display white LEDs to these pins.", 10 DM3 (in) "Current sink input. Connect the cathode of one of the main display white LEDs to these pins.", 11 DM4 (in) "Current sink input. Connect the cathode of one of the main display white LEDs to these pins.", 12 GND (power) "Ground.", 13 C1- "Connect to the flying capacitor C1.", 14 C2+ "Connect to the flying capacitor C2.", 15 C2- "Connect to the flying capacitor C2.", 16 C1+ "Connect to the flying capacitor C1.", 17 EP (power) "Exposed thermal pad."

## TPS60250RTETG4
designator U?
High Efficiency Charge Pump for 7 WLEDs with I2C Interface, 3 to 6 V, -40 to 85 degC, 16-pin QFN (RTE16), Green (RoHS & no Sb/Br); Manufacturer: Texas Instruments; PartNumber: TPS60250RTETG4; Dimming: TRUE; Iout(Max)(A): 0.23; Iq(Typ)(mA): 0.068; Rating: Catalog; SubFamily: White LED Driver; Switching Frequency(Max)(kHz): 750; Topology: Boost; Vin(Max)(V): 6; Vin(Min)(V): 3; DatasheetVersion: SLVS769C; PackageVersion: 4205254/D; PackageReference: RTE16-1700X1700TP; PackageDescription: 16-Pin Plastic Flat Pack, Body 3 x 3 mm, Pitch 0.5 mm; Supplier 1: Digi-Key; Supplier Part Number 1: TPS60250RTETG4-ND; Supplier 2: Mouser; Supplier Part Number 2: 595-TPS60250RTETG4; Eco-Plan: Green (RoHS & no Sb/Br); Mounting Technology: Surface Mount; Code_JEDEC: MO-220; ComponentLink1Description: Manufacturer URL; ComponentLink1URL: http://www.ti.com/; ComponentLink2Description: Datasheet; ComponentLink2URL: http://www.ti.com/general/docs/lit/getliterature.tsp?genericPartNumber=TPS60250&fileType=pdf; ComponentLink3Description: Package Specification; ComponentLink3URL: http://www.ti.com/litv/pdf/mpqf149c
footprint TI-RTE16-1700X1700TP_V (QFN, 16-Leads, Body 3x3mm, Pitch 0.5mm, Thermal Pad 1.7x1.7mm)
pins: 1 VOUT (power) "Connect the anodes of the sub, main, and aux display white LEDs to this pin.", 2 VIN (power) "Supply voltage input. Connect to a 3 V to 6 V input supply source.", 3 SCLK (in) "I2C Interface", 4 SDAT (io) "I2C Interface", 5 DM5 (in) "Current sink inputs. Connect the cathode of the aux display or the 5th main display white LED to this pin.", 6 DS1 (in) "Current sink inputs. Connect the cathode of one of the sub display white LEDs to these pins.", 7 DS2 (in) "Current sink inputs. Connect the cathode of one of the sub display white LEDs to these pins.", 8 DM1 (in) "Current sink input. Connect the cathode of one of the main display white LEDs to these pins.", 9 DM2 (in) "Current sink input. Connect the cathode of one of the main display white LEDs to these pins.", 10 DM3 (in) "Current sink input. Connect the cathode of one of the main display white LEDs to these pins.", 11 DM4 (in) "Current sink input. Connect the cathode of one of the main display white LEDs to these pins.", 12 GND (power) "Ground.", 13 C1- "Connect to the flying capacitor C1.", 14 C2+ "Connect to the flying capacitor C2.", 15 C2- "Connect to the flying capacitor C2.", 16 C1+ "Connect to the flying capacitor C1.", 17 EP (power) "Exposed thermal pad."

## TPS60251RTWR
designator U?
High Efficiency Charge Pump for 7 WLEDs with I2C Interface, 3 to 6 V, -40 to 85 degC, 24-pin QFN (RTW24), Green (RoHS & no Sb/Br); Manufacturer: Texas Instruments; PartNumber: TPS60251RTWR; Dimming: TRUE; Iout(Max)(A): 0.23; Iq(Typ)(mA): 0.068; Rating: Catalog; SubFamily: White LED Driver; Switching Frequency(Max)(kHz): 750; Topology: Boost; Vin(Max)(V): 6; Vin(Min)(V): 3; DatasheetVersion: SLVS755; PackageVersion: 4206244/C; PackageReference: RTW24-2450X2450TP; PackageDescription: 24-Pin Plastic Flat Pack, Body 4 x 4 mm, Pitch 0.5 mm; Supplier 1: Digi-Key; Supplier Part Number 1: TPS60251RTWR-ND; Supplier 2: Mouser; Supplier Part Number 2: 595-TPS60251RTWR; Eco-Plan: Green (RoHS & no Sb/Br); Mounting Technology: Surface Mount; Code_JEDEC: MO-220; ComponentLink1Description: Manufacturer URL; ComponentLink1URL: http://www.ti.com/; ComponentLink2Description: Datasheet; ComponentLink2URL: http://www.ti.com/general/docs/lit/getliterature.tsp?genericPartNumber=TPS60251&fileType=pdf; ComponentLink3Description: Package Specification; ComponentLink3URL: http://www.ti.com/litv/pdf/mplc004a
footprint TI-RTW24-2450X2450TP_V (QFN, 24-Leads, Body 4x4mm, Pitch 0.5mm, Thermal Pad 2.45x2.45mm)
pins: 1 SCLK (in) "I2C Interface.", 2 SDAT (io) "I2C Interface.", 3 ENA (in) "Hardware enable/disable pin. Connect this pin high to enable the device. Connect this pin low to disable the device. Do not leave this pin unconnected.", 4 DS1 (in) "Current sink input. Connect the cathode of one of the sub display white LEDs to this pin.", 5 DS2 (in) "Current sink input. Connect the cathode of one of the sub display white LEDs to this pin.", 6 DM5 (in) "Current sink input. Connect the cathode of the aux display or the 5th main display white LED to this pin.", 7 VIO (power) "I/O Voltage input (1.8V). Connect an input voltage supply of 1.8V to VIN to set the logic levels for the I2C interface.", 8 NC "No connection.", 9 GND (power) "Ground.", 10 GND (power) "Ground.", 11 NC "No connection.", 12 NC "No connection.", 13 DM1 (in) "Current sink input. Connect the cathode of one of the main display white LED to this pin.", 14 DM2 (in) "Current sink input. Connect the cathode of one of the main display white LED to this pin.", 15 DM3 (in) "Current sink input. Connect the cathode of one of the main display white LED to this pin.", 16 DM4 (in) "Current sink input. Connect the cathode of one of the main display white LED to this pin.", 17 IS (in) "Maximum LED current setting input. Connect a resistor (RIS) between this pin and GND to set the full-scale white LED current for sub (DS1, DS2), main (DM1, DM2, DM3, DM4), and DM5 LEDs. See the Setting the LED Current (See Datasheet)", 18 GND (power) "Ground.", 19 C1- "Connect to the flying capacitor C1.", 20 C2+ "Connect to the flying capacitor C2.", 21 C2- "Connect to the flying capacitor C2.", 22 C1+ "Connect to the flying capacitor C1.", 23 VOUT (power) "Connect the anodes of the sub, main, and aux display white LEDs to this pin. Bypass VOUT to GND with a 4.7-uF or greater ceramic capacitor.", 24 VIN (power) "Supply voltage input. Connect to a 3-V to 6-V input supply source. Bypass VIN to GND with a 4.7-uF or greater ceramic capacitor.", 25 EP "Exposed thermal pad."

## TPS60251RTWRG4
designator U?
High Efficiency Charge Pump for 7 WLEDs with I2C Interface, 3 to 6 V, -40 to 85 degC, 24-pin QFN (RTW24), Green (RoHS & no Sb/Br); Manufacturer: Texas Instruments; PartNumber: TPS60251RTWRG4; Dimming: TRUE; Iout(Max)(A): 0.23; Iq(Typ)(mA): 0.068; Rating: Catalog; SubFamily: White LED Driver; Switching Frequency(Max)(kHz): 750; Topology: Boost; Vin(Max)(V): 6; Vin(Min)(V): 3; DatasheetVersion: SLVS755; PackageVersion: 4206244/C; PackageReference: RTW24-2450X2450TP; PackageDescription: 24-Pin Plastic Flat Pack, Body 4 x 4 mm, Pitch 0.5 mm; Supplier 1: Digi-Key; Supplier Part Number 1: TPS60251RTWRG4-ND; Supplier 2: Mouser; Supplier Part Number 2: 595-TPS60251RTWRG4; Eco-Plan: Green (RoHS & no Sb/Br); Mounting Technology: Surface Mount; Code_JEDEC: MO-220; ComponentLink1Description: Manufacturer URL; ComponentLink1URL: http://www.ti.com/; ComponentLink2Description: Datasheet; ComponentLink2URL: http://www.ti.com/general/docs/lit/getliterature.tsp?genericPartNumber=TPS60251&fileType=pdf; ComponentLink3Description: Package Specification; ComponentLink3URL: http://www.ti.com/litv/pdf/mplc004a
footprint TI-RTW24-2450X2450TP_V (QFN, 24-Leads, Body 4x4mm, Pitch 0.5mm, Thermal Pad 2.45x2.45mm)
pins: 1 SCLK (in) "I2C Interface.", 2 SDAT (io) "I2C Interface.", 3 ENA (in) "Hardware enable/disable pin. Connect this pin high to enable the device. Connect this pin low to disable the device. Do not leave this pin unconnected.", 4 DS1 (in) "Current sink input. Connect the cathode of one of the sub display white LEDs to this pin.", 5 DS2 (in) "Current sink input. Connect the cathode of one of the sub display white LEDs to this pin.", 6 DM5 (in) "Current sink input. Connect the cathode of the aux display or the 5th main display white LED to this pin.", 7 VIO (power) "I/O Voltage input (1.8V). Connect an input voltage supply of 1.8V to VIN to set the logic levels for the I2C interface.", 8 NC "No connection.", 9 GND (power) "Ground.", 10 GND (power) "Ground.", 11 NC "No connection.", 12 NC "No connection.", 13 DM1 (in) "Current sink input. Connect the cathode of one of the main display white LED to this pin.", 14 DM2 (in) "Current sink input. Connect the cathode of one of the main display white LED to this pin.", 15 DM3 (in) "Current sink input. Connect the cathode of one of the main display white LED to this pin.", 16 DM4 (in) "Current sink input. Connect the cathode of one of the main display white LED to this pin.", 17 IS (in) "Maximum LED current setting input. Connect a resistor (RIS) between this pin and GND to set the full-scale white LED current for sub (DS1, DS2), main (DM1, DM2, DM3, DM4), and DM5 LEDs. See the Setting the LED Current (See Datasheet)", 18 GND (power) "Ground.", 19 C1- "Connect to the flying capacitor C1.", 20 C2+ "Connect to the flying capacitor C2.", 21 C2- "Connect to the flying capacitor C2.", 22 C1+ "Connect to the flying capacitor C1.", 23 VOUT (power) "Connect the anodes of the sub, main, and aux display white LEDs to this pin. Bypass VOUT to GND with a 4.7-uF or greater ceramic capacitor.", 24 VIN (power) "Supply voltage input. Connect to a 3-V to 6-V input supply source. Bypass VIN to GND with a 4.7-uF or greater ceramic capacitor.", 25 EP "Exposed thermal pad."

## TPS60251RTWT
designator U?
High Efficiency Charge Pump for 7 WLEDs with I2C Interface, 3 to 6 V, -40 to 85 degC, 24-pin QFN (RTW24), Green (RoHS & no Sb/Br); Manufacturer: Texas Instruments; PartNumber: TPS60251RTWT; Dimming: TRUE; Iout(Max)(A): 0.23; Iq(Typ)(mA): 0.068; Rating: Catalog; SubFamily: White LED Driver; Switching Frequency(Max)(kHz): 750; Topology: Boost; Vin(Max)(V): 6; Vin(Min)(V): 3; DatasheetVersion: SLVS755; PackageVersion: 4206244/C; PackageReference: RTW24-2450X2450TP; PackageDescription: 24-Pin Plastic Flat Pack, Body 4 x 4 mm, Pitch 0.5 mm; Supplier 1: Digi-Key; Supplier Part Number 1: 296-21894-2-ND; Supplier 2: Digi-Key; Supplier Part Number 2: 296-21894-1-ND; Supplier 3: Digi-Key; Supplier Part Number 3: 296-21894-6-ND; Supplier 4: Farnell; Supplier Part Number 4: 1755585RL; Supplier 5: Farnell; Supplier Part Number 5: 1755585; Supplier 6: Newark; Supplier Part Number 6: 41M5881; Supplier 7: Mouser; Supplier Part Number 7: 595-TPS60251RTWT; Eco-Plan: Green (RoHS & no Sb/Br); Mounting Technology: Surface Mount; Code_JEDEC: MO-220; ComponentLink1Description: Manufacturer URL; ComponentLink1URL: http://www.ti.com/; ComponentLink2Description: Datasheet; ComponentLink2URL: http://www.ti.com/general/docs/lit/getliterature.tsp?genericPartNumber=TPS60251&fileType=pdf; ComponentLink3Description: Package Specification; ComponentLink3URL: http://www.ti.com/litv/pdf/mplc004a
footprint TI-RTW24-2450X2450TP_V (QFN, 24-Leads, Body 4x4mm, Pitch 0.5mm, Thermal Pad 2.45x2.45mm)
pins: 1 SCLK (in) "I2C Interface.", 2 SDAT (io) "I2C Interface.", 3 ENA (in) "Hardware enable/disable pin. Connect this pin high to enable the device. Connect this pin low to disable the device. Do not leave this pin unconnected.", 4 DS1 (in) "Current sink input. Connect the cathode of one of the sub display white LEDs to this pin.", 5 DS2 (in) "Current sink input. Connect the cathode of one of the sub display white LEDs to this pin.", 6 DM5 (in) "Current sink input. Connect the cathode of the aux display or the 5th main display white LED to this pin.", 7 VIO (power) "I/O Voltage input (1.8V). Connect an input voltage supply of 1.8V to VIN to set the logic levels for the I2C interface.", 8 NC "No connection.", 9 GND (power) "Ground.", 10 GND (power) "Ground.", 11 NC "No connection.", 12 NC "No connection.", 13 DM1 (in) "Current sink input. Connect the cathode of one of the main display white LED to this pin.", 14 DM2 (in) "Current sink input. Connect the cathode of one of the main display white LED to this pin.", 15 DM3 (in) "Current sink input. Connect the cathode of one of the main display white LED to this pin.", 16 DM4 (in) "Current sink input. Connect the cathode of one of the main display white LED to this pin.", 17 IS (in) "Maximum LED current setting input. Connect a resistor (RIS) between this pin and GND to set the full-scale white LED current for sub (DS1, DS2), main (DM1, DM2, DM3, DM4), and DM5 LEDs. See the Setting the LED Current (See Datasheet)", 18 GND (power) "Ground.", 19 C1- "Connect to the flying capacitor C1.", 20 C2+ "Connect to the flying capacitor C2.", 21 C2- "Connect to the flying capacitor C2.", 22 C1+ "Connect to the flying capacitor C1.", 23 VOUT (power) "Connect the anodes of the sub, main, and aux display white LEDs to this pin. Bypass VOUT to GND with a 4.7-uF or greater ceramic capacitor.", 24 VIN (power) "Supply voltage input. Connect to a 3-V to 6-V input supply source. Bypass VIN to GND with a 4.7-uF or greater ceramic capacitor.", 25 EP "Exposed thermal pad."